# Altium schematic symbol library TR_NMOS.SchLib: 4 symbols
Pins are listed as number, name and electrical type; pins without a type are passive.

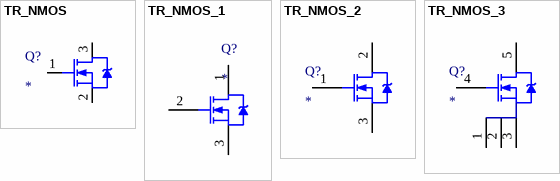
[diagram p0: symbols TR_NMOS to TR_NMOS_3]

## TR_NMOS
designator Q?
pins: 1 G, 2 S, 3 D

## TR_NMOS_1
designator Q?
pins: 1 G, 2 S, 3 D

## TR_NMOS_2
designator Q?
pins: 1 G, 2 D, 3 S

## TR_NMOS_3
designator Q?
pins: 1 S, 2 S, 3 S, 4 G, 5 D